# Altium footprint library MC.PcbLib: 32 footprints (part 1 of 2)
Each footprint in its own frame and in the unit in brackets; x right, y up, seen from the top. Pads: shape width x height; smd on the part's side, far side on the other; paste and mask are expansions set on the pad; w line width, h text height; cw(c..) or ccw(c..) is an arc to the next point about the centre after c.
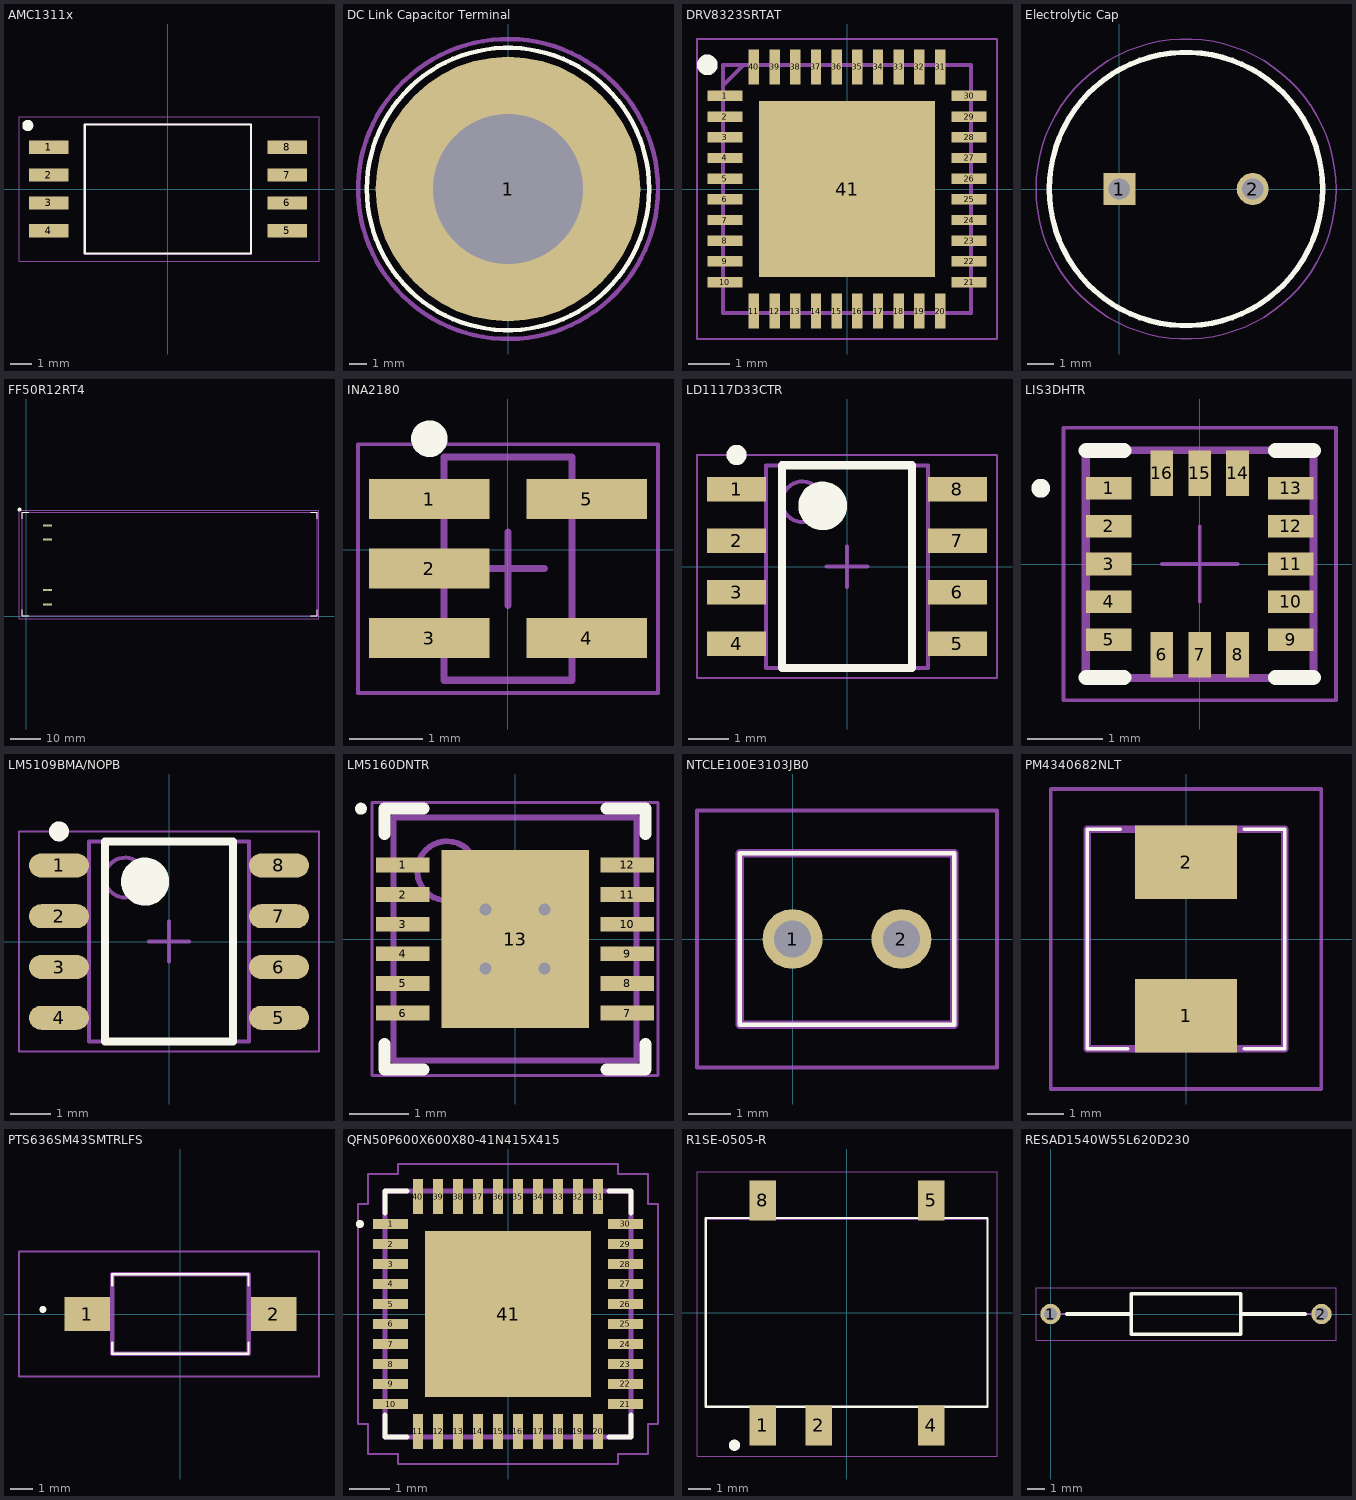
[diagram p0: the footprints below, top view; thin cyan lines are the x and y axes]

## AMC1311x [mm] "Isolated Amplifier 2V Input"
pads (8):
  rect 1.8x0.6 smd: 1(-5.45,1.905) 2(-5.45,0.635) 3(-5.45,-0.635) 4(-5.45,-1.905) 5(5.45,-1.905) 6(5.45,-0.635) 7(5.45,0.635) 8(5.45,1.905)
Top Overlay:
  circle w0.254: c-6.4,2.9 r0.125
  lines w0.1: -3.8,-2.95 3.8,-2.95 3.8,2.95 -3.8,2.95 -3.8,-2.95
Mechanical 13:
  lines w0.05: -3.8,-2.975 3.8,-2.975 3.8,2.975 -3.8,2.975 -3.8,-2.975
Mechanical 15:
  lines w0.05: -6.8,-3.3 6.9,-3.3 6.9,3.3 -6.8,3.3 -6.8,-3.3

## DC Link Capacitor Terminal [mm]
pads (1):
  round 15 hole 8.5: 1(0,0)
Top Overlay:
  circle w0.254: c0,0 r8
Mechanical 15:
  circle w0.254: c0,0 r8.5

## DRV8323SRTAT [mm]
pads (41):
  rect 0.85x0.25 smd: 1(-2.95,2.25) 2(-2.95,1.75) 3(-2.95,1.25) 4(-2.95,0.75) 5(-2.95,0.25) 6(-2.95,-0.25) 7(-2.95,-0.75) 8(-2.95,-1.25) 9(-2.95,-1.75) 10(-2.95,-2.25) 21(2.95,-2.25) 22(2.95,-1.75) 23(2.95,-1.25) 24(2.95,-0.75) 25(2.95,-0.25) 26(2.95,0.25) 27(2.95,0.75) 28(2.95,1.25) 29(2.95,1.75) 30(2.95,2.25)
  rect 0.25x0.85 smd: 11(-2.25,-2.95) 12(-1.75,-2.95) 13(-1.25,-2.95) 14(-0.75,-2.95) 15(-0.25,-2.95) 16(0.25,-2.95) 17(0.75,-2.95) 18(1.25,-2.95) 19(1.75,-2.95) 20(2.25,-2.95) 31(2.25,2.95) 32(1.75,2.95) 33(1.25,2.95) 34(0.75,2.95) 35(0.25,2.95) 36(-0.25,2.95) 37(-0.75,2.95) 38(-1.25,2.95) 39(-1.75,2.95) 40(-2.25,2.95)
  rect 4.25x4.25 smd: 41(0,0)
Top Overlay:
  circle w0.25: c-3.375,3 r0.125
Mechanical 13:
  lines w0.1: -3,2.5 -2.5,3 ; -3,-3 3,-3 3,3 -3,3 -3,-3
Mechanical 15:
  lines w0.05: -3.625,-3.625 -3.625,3.625 3.625,3.625 3.625,-3.625 -3.625,-3.625
3D body "DRV8323SRTAT.stp": height 0.8, standoff 0, extent -3.05,-3.05 3.05,3.05

## Electrolytic Cap [mm]
pads (2):
  rect 1.2x1.2 hole 0.8: 1(0,0)
  round 1.2 hole 0.8: 2(5,0)
Top Overlay:
  circle w0.2: c2.5,0 r5.125
Mechanical 13:
  circle w0.1: c2.5,0 r5.125
Mechanical 15:
  circle w0.05: c2.5,0 r5.625
3D body "100ZLH100MEFC10X20.stp": height 22, standoff -10, extent -2.75,-5.247 7.75,5.247

## FF50R12RT4 [mm] "Emitter Controlled 4 Diode"
pads (4):
  rect 3x0.7 hole 0.7 square: 4(7,30) 5(7,25.3) 6(7,4) 7(7,8.7)
Top Overlay:
  circle w1: c-2.2,35.2 r0.141
  lines w0.127: -1.256,2.246 -1.256,0.246 0.744,0.246 ; -1.254,32.246 -1.254,34.246 ; -1.254,34.25 0.746,34.25 ; 93.7,0.255 95.7,0.255 ; 93.757,34.257 95.753,34.257 ; 95.75,0.255 95.75,2.255 ; 95.753,32.246 95.753,34.246
Mechanical 13:
  lines w0.127: -1.25,0.25 95.75,0.25 95.75,34.25 -1.25,34.25 -1.25,0.25
Mechanical 15:
  lines w0.127: -2.4,-0.786 -2.4,34.5 -2.4,35 96.4,35 96.4,-0.786 -2.4,-0.786

## INA2180 [mm] "Current Sense Amplifier"
pads (5):
  rect 1.65x0.55 smd: 1(-1.075,0.696) 2(-1.075,-0.254) 3(-1.075,-1.204) 4(1.075,-1.204) 5(1.075,0.696)
Top Overlay:
  circle w0.25: c-1.075,1.521 r0.125
Mechanical 13:
  lines w0.1: -0.875,-1.779 -0.875,1.271 0.875,1.271 0.875,-1.779 -0.875,-1.779
Mechanical 15:
  lines w0.05: -2.05,-1.954 -2.05,1.446 2.05,1.446 2.05,-1.954 -2.05,-1.954
  lines w0.1: -0.5,-0.254 0.5,-0.254 ; 0,-0.754 0,0.246
3D body "INA2180.step": height 1.45, standoff 0, extent -1.4,-1.777 1.4,1.269

## LD1117D33CTR [mm] "Linear Voltage Regulator IC Positive Fixed 1 Output 800mA 8-SOIC"
pads (8):
  rect 1.45x0.6 smd: 1(-2.725,1.905) 2(-2.725,0.635) 3(-2.725,-0.635) 4(-2.725,-1.905) 5(2.725,-1.905) 6(2.725,-0.635) 7(2.725,0.635) 8(2.725,1.905)
Top Overlay:
  circle w0.6: c-0.6,1.5 r0.3
  circle w0.25: c-2.725,2.755 r0.125
  lines w0.2: -1.6,-2.5 1.6,-2.5 1.6,2.5 -1.6,2.5 -1.6,-2.5
Mechanical 13:
  circle w0.1: c-1.1,1.6 r0.5
  lines w0.1: -2,-2.5 2,-2.5 2,2.5 -2,2.5 -2,-2.5
Mechanical 15:
  lines w0.05: -3.7,-2.75 3.7,-2.75 3.7,2.75 -3.7,2.75 -3.7,-2.75
  lines w0.1: -0.5,0 0.5,0 ; 0,-0.5 0,0.5
3D body "LD1117D33CTR.step": height 1.75, standoff 0, extent -3,-2.5 3,2.5

## LIS3DHTR [mm]
pads (16):
  rect 0.6x0.3 smd: 1(-1.2,1) 2(-1.2,0.5) 3(-1.2,0) 4(-1.2,-0.5) 5(-1.2,-1) 9(1.2,-1) 10(1.2,-0.5) 11(1.2,0) 12(1.2,0.5) 13(1.2,1)
  rect 0.3x0.6 smd: 6(-0.5,-1.2) 7(0,-1.2) 8(0.5,-1.2) 14(0.5,1.2) 15(0,1.2) 16(-0.5,1.2)
Top Overlay:
  lines w0.125: -2.163,1.001 ccw(c-2.101,1.001) -2.038,1.001 ccw(c-2.101,1.001) -2.163,1.001
  lines w0.2: -1.5,-1.5 -1,-1.5 ; -1.5,1.5 -1,1.5 ; 1,-1.5 1.5,-1.5 ; 1,1.5 1.5,1.5
Mechanical 13:
  lines w0.1: -1.5,-1.5 1.5,-1.5 1.5,1.5 -1.5,1.5 -1.5,-1.5
Mechanical 15:
  lines w0.001: -1.55,-1.55 1.55,-1.55 1.55,1.55 -1.55,1.55 -1.55,-1.55
  lines w0.05: -0.5,0 0.5,0 ; 0,-0.5 0,0.5 ; -1.8,-1.8 1.8,-1.8 1.8,1.8 -1.8,1.8 -1.8,-1.8
3D body "LIS3DHTR.stp": height 1.1, standoff 0, extent -1.5,-1.5 1.5,1.5

## LM5109BMA/NOPB [mm] "Half Bridge Gate Driver 1-A Peak"
height 1.75
pads (8):
  oval 1.5x0.6 smd: 1(-2.75,1.905) 2(-2.75,0.635) 3(-2.75,-0.635) 4(-2.75,-1.905) 5(2.75,-1.905) 6(2.75,-0.635) 7(2.75,0.635) 8(2.75,1.905)
Top Overlay:
  circle w0.6: c-0.6,1.5 r0.3
  circle w0.25: c-2.75,2.755 r0.125
  lines w0.2: -1.6,-2.5 1.6,-2.5 1.6,2.5 -1.6,2.5 -1.6,-2.5
Mechanical 13:
  circle w0.1: c-1.1,1.6 r0.5
  lines w0.1: -2,-2.5 2,-2.5 2,2.5 -2,2.5 -2,-2.5
Mechanical 15:
  lines w0.05: -3.75,-2.75 3.75,-2.75 3.75,2.75 -3.75,2.75 -3.75,-2.75
  lines w0.1: -0.5,0 0.5,0 ; 0,-0.5 0,0.5
3D body: height 1.75, standoff 0.25, extent -2,-2.5 2,2.5

## LM5160DNTR [mm] "SON, 12-Leads, Body 4.00x4.00mm, Pitch 0.50mm, Thermal Pad 3.00x2.49mm, IPC Medium Density"
height 1
pads (13):
  rect 0.9x0.25 smd: 1(-1.895,1.25) 2(-1.895,0.75) 3(-1.895,0.25) 4(-1.895,-0.25) 5(-1.895,-0.75) 6(-1.895,-1.25) 7(1.895,-1.25) 8(1.895,-0.75) 9(1.895,-0.25) 10(1.895,0.25) 11(1.895,0.75) 12(1.895,1.25)
  rect 2.49x3 smd paste-1.245: 13(0,0)
via 0.5,-0.5 diameter 0.5 hole 0.2
via 0.5,0.5 diameter 0.5 hole 0.2
via -0.5,0.5 diameter 0.5 hole 0.2
via -0.5,-0.5 diameter 0.5 hole 0.2
Top Overlay:
  circle w0.1: c-2.6,2.2 r0.05
  lines w0.2: -2.2,-1.775 -2.2,-2.2 -1.545,-2.2 ; -2.2,1.775 -2.2,2.2 -1.545,2.2 ; 1.545,-2.2 2.2,-2.2 2.2,-1.775 ; 1.545,2.2 2.2,2.2 2.2,1.775
Top Paste:
  rectangle: 0.1,-1.4 1.15,-0.1
  rectangle: 0.1,0.1 1.15,1.4
  rectangle: -1.15,-1.4 -0.1,-0.1
  rectangle: -1.15,0.1 -0.1,1.4
Mechanical 13:
  circle w0.1: c-1.15,1.15 r0.5
  lines w0.1: -2.05,-2.05 2.05,-2.05 2.05,2.05 -2.05,2.05 -2.05,-2.05
Mechanical 15:
  lines w0.05: -2.413,-2.3 2.413,-2.3 2.413,2.3 -2.413,2.3 -2.413,-2.3
  lines w0.1: -0.5,0 0.5,0 ; 0,-0.5 0,0.5
3D body "LM5160DNTR.step": height 1, standoff 0, extent -2.13,-2.05 2.13,2.05

## NTCLE100E3103JB0 [mil]
pads (2):
  round 55 hole 33.86: 1(0,0) 2(100,0)
Top Overlay:
  lines w3.94: -48.43,-78.74 -48.43,78.74 148.43,78.74 148.43,-78.74 -48.43,-78.74
Mechanical 13:
  lines w7.87: -48.43,-78.74 -48.43,78.74 148.43,78.74 148.43,-78.74 -48.43,-78.74
Mechanical 15:
  lines w3.94: -87.8,-118.11 -87.8,118.11 187.8,118.11 187.8,-118.11 -87.8,-118.11
3D body "NTCLE100E3103JB0.stp": height 397.64, standoff -196.85, extent -48.43,-78.74 148.43,78.74

## PM4340682NLT [mm]
pads (2):
  rect 2.8x2 smd: 1(0,-2.1) 2(0,2.1)
Top Overlay:
  lines w0.1: -1.8,3 -2.7,3 -2.7,-3 -1.6,-3 ; 1.6,-3 2.7,-3 2.7,3 1.6,3
Mechanical 13:
  lines w0.2: -2.7,-3 -2.7,3 2.7,3 2.7,-3 -2.7,-3
Mechanical 15:
  lines w0.1: -3.7,-4.1 -3.7,4.1 3.7,4.1 3.7,-4.1 -3.7,-4.1
3D body "PM4340.682NLT.stp": height 2.1, standoff 0, extent -2.7,-3 2.7,3

## PTS636SM43SMTRLFS [mm]
pads (2):
  rect 2x1.5 smd: 1(-4.1,0) 2(4.1,0)
Top Overlay:
  lines w0.1: -3,-1.75 -3,-1.25 -3,-1.75 ; -3,-1.75 3,-1.75 ; -3,-1.75 3,-1.75 ; -3,1.75 -3,1.25 -3,1.75 ; -3,1.75 3,1.75 ; -3,1.75 3,1.75 ; 3,-1.75 3,-1.25 3,-1.75 ; 3,1.75 3,1.25 3,1.75
  lines w0.2: -6.1,0.2 ccw(c-6.05,0.2) -6,0.2 ; -6.1,0.2 cw(c-6.05,0.2) -6,0.2 ; -6.1,0.2 ccw(c-6.05,0.2) -6,0.2
Mechanical 13:
  lines w0.2: -3,-1.75 3,-1.75 3,1.75 -3,1.75 -3,-1.75
Mechanical 15:
  lines w0.1: -7.1,-2.75 6.1,-2.75 6.1,2.75 -7.1,2.75 -7.1,-2.75

## QFN50P600X600X80-41N415X415 [mm]
pads (41):
  rrect14% 0.88x0.26 smd: 1(-2.935,2.25) 2(-2.935,1.75) 3(-2.935,1.25) 4(-2.935,0.75) 5(-2.935,0.25) 6(-2.935,-0.25) 7(-2.935,-0.75) 8(-2.935,-1.25) 9(-2.935,-1.75) 10(-2.935,-2.25) 21(2.935,-2.25) 22(2.935,-1.75) 23(2.935,-1.25) 24(2.935,-0.75) 25(2.935,-0.25) 26(2.935,0.25) 27(2.935,0.75) 28(2.935,1.25) 29(2.935,1.75) 30(2.935,2.25)
  rrect14% 0.26x0.88 smd: 11(-2.25,-2.935) 12(-1.75,-2.935) 13(-1.25,-2.935) 14(-0.75,-2.935) 15(-0.25,-2.935) 16(0.25,-2.935) 17(0.75,-2.935) 18(1.25,-2.935) 19(1.75,-2.935) 20(2.25,-2.935) 31(2.25,2.935) 32(1.75,2.935) 33(1.25,2.935) 34(0.75,2.935) 35(0.25,2.935) 36(-0.25,2.935) 37(-0.75,2.935) 38(-1.25,2.935) 39(-1.75,2.935) 40(-2.25,2.935)
  rect 4.15x4.15 smd: 41(0,0)
Top Overlay:
  circle w0.1: c-3.7,2.25 r0.05
  lines w0.127: -3.08,-2.526 -3.08,-3.08 -2.526,-3.08 ; -3.08,2.526 -3.08,3.08 -2.526,3.08 ; 2.526,-3.08 3.08,-3.08 3.08,-2.526 ; 2.526,3.08 3.08,3.08 3.08,2.526
Mechanical 13:
  lines w0.127: -3.08,-3.08 -3.08,3.08 3.08,3.08 3.08,-3.08 -3.08,-3.08
Mechanical 15:
  lines w0.05: -3.75,-2.75 -3.75,2.75 -3.5,2.75 -3.5,3.5 -2.75,3.5 -2.75,3.75 2.75,3.75 2.75,3.5 3.5,3.5 3.5,2.75 3.75,2.75 3.75,-2.75 3.5,-2.75 3.5,-3.5 2.75,-3.5 2.75,-3.75 -2.75,-3.75 -2.75,-3.5 -3.5,-3.5 -3.5,-2.75 -3.75,-2.75

## R1SE-0505-R [mm] "DC DC CONVERTER 5V 1W"
pads (5):
  rect 1.2x1.8 smd: 1(-3.81,-5.1) 2(-1.27,-5.1) 4(3.81,-5.1) 5(3.81,5.1) 8(-3.81,5.1)
Top Overlay:
  circle w0.254: c-5.1,-6 r0.125
  lines w0.1: -6.4,-4.25 6.375,-4.25 6.375,4.3 -6.4,4.3 -6.4,-4.25
Mechanical 13:
  lines w0.05: -6.375,-4.25 6.375,-4.25 6.375,4.25 -6.375,4.25 -6.375,-4.25
Mechanical 15:
  lines w0.05: -6.8,-6.5 6.8,-6.5 6.8,6.4 -6.8,6.4 -6.8,-6.5

## RESAD1540W55L620D230 [mm]
pads (2):
  round 1.15 hole 0.75: 1(0,0) 2(15.4,0)
Top Overlay:
  lines w0.2: 0.925,0 4.6,0 ; 10.8,0 14.475,0 ; 4.6,-1.15 4.6,1.15 10.8,1.15 10.8,-1.15 4.6,-1.15
Mechanical 13:
  lines w0.1: 0,0 4.6,0 ; 10.8,0 15.4,0 ; 4.6,-1.15 4.6,1.15 10.8,1.15 10.8,-1.15 4.6,-1.15
Mechanical 15:
  lines w0.05: -0.825,-1.5 -0.825,1.5 16.225,1.5 16.225,-1.5 -0.825,-1.5
3D body "LR1F2K2.stp": height 2.35, standoff 0.05, extent 2.347,-1.15 13.147,1.15